# Altium footprint library Passive,Diodes.PcbLib: 20 footprints (part 2 of 2)
Each footprint in its own frame and in the unit in brackets; x right, y up, seen from the top. Pads: shape width x height; smd on the part's side, far side on the other; paste and mask are expansions set on the pad; w line width, h text height; cw(c..) or ccw(c..) is an arc to the next point about the centre after c.
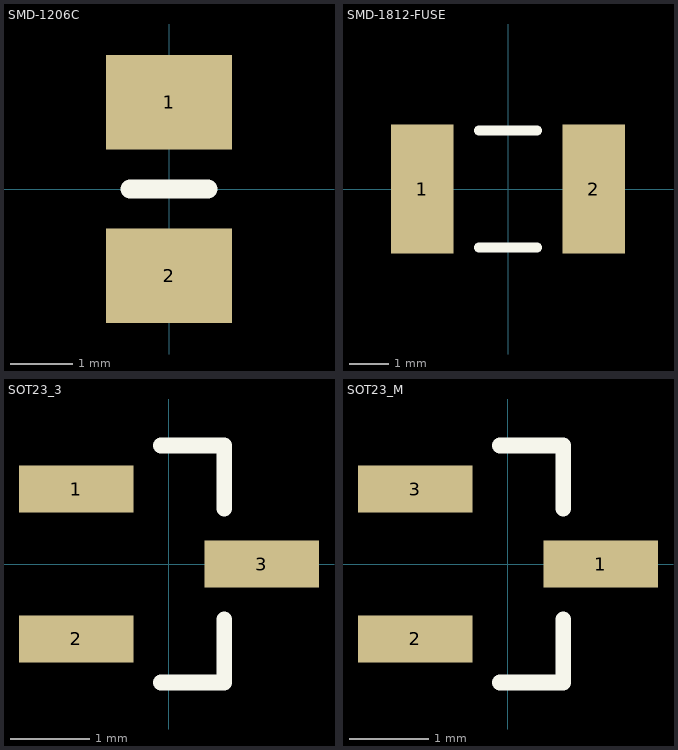
[diagram p1: the footprints below, top view; thin cyan lines are the x and y axes]

## SMD-1206C [mil]
pads (2):
  rect 80x60 smd: 1(0,55) 2(0,-55)
Top Overlay:
  lines w12: -24.6,0.01 24.6,0.01
3D body "capacitor 1206.step": height 39.37, standoff 0, extent -31.49,-62.99 31.5,63

## SMD-1812-FUSE [mm] "1812 SMD Fuse"
height 1.1
pads (2):
  rect 1.6x3.3 smd: 1(-2.2,0) 2(2.2,0)
Top Overlay:
  lines w0.254: -0.75,-1.5 0.75,-1.5 ; -0.75,1.5 0.75,1.5
3D body "User Library-1812L.step": height 1.34, standoff 0, extent -2.365,-1.705 2.365,1.705

## SOT23_3 [mm] "SOT23, 3-Leads, Body 2.9x1.3mm, Pitch 0.95mm, Lead Span 2.3mm - Reverse Pinning, IPC Low Density"
height 1.1
pads (3):
  rect 1.45x0.6 smd: 1(-1.175,0.95) 2(-1.175,-0.95) 3(1.175,0)
Top Overlay:
  lines w0.2: -0.1,-1.5 0.7,-1.5 0.7,-0.7 ; -0.1,1.5 0.7,1.5 0.7,0.7
3D body "SOT-23.step": height 1.1, standoff 0, extent -1.25,-1.5 1.25,1.5

## SOT23_M [mm] "SOT23, 3-Leads, Body 2.9x1.3mm, Pitch 0.95mm, Lead Span 2.3mm - Reverse Pinning, IPC Low Density"
height 1.1
pads (3):
  rect 1.45x0.6 smd: 1(1.175,0) 2(-1.175,-0.95) 3(-1.175,0.95)
Top Overlay:
  lines w0.2: -0.1,-1.5 0.7,-1.5 0.7,-0.7 ; -0.1,1.5 0.7,1.5 0.7,0.7
3D body "SOT-23.step": height 1.1, standoff 0, extent -1.25,-1.5 1.25,1.5